# Altium footprint library PcbLib1.PcbLib: 6 footprints
Each footprint in its own frame and in the unit in brackets; x right, y up, seen from the top. Pads: shape width x height; smd on the part's side, far side on the other; paste and mask are expansions set on the pad; w line width, h text height; cw(c..) or ccw(c..) is an arc to the next point about the centre after c.
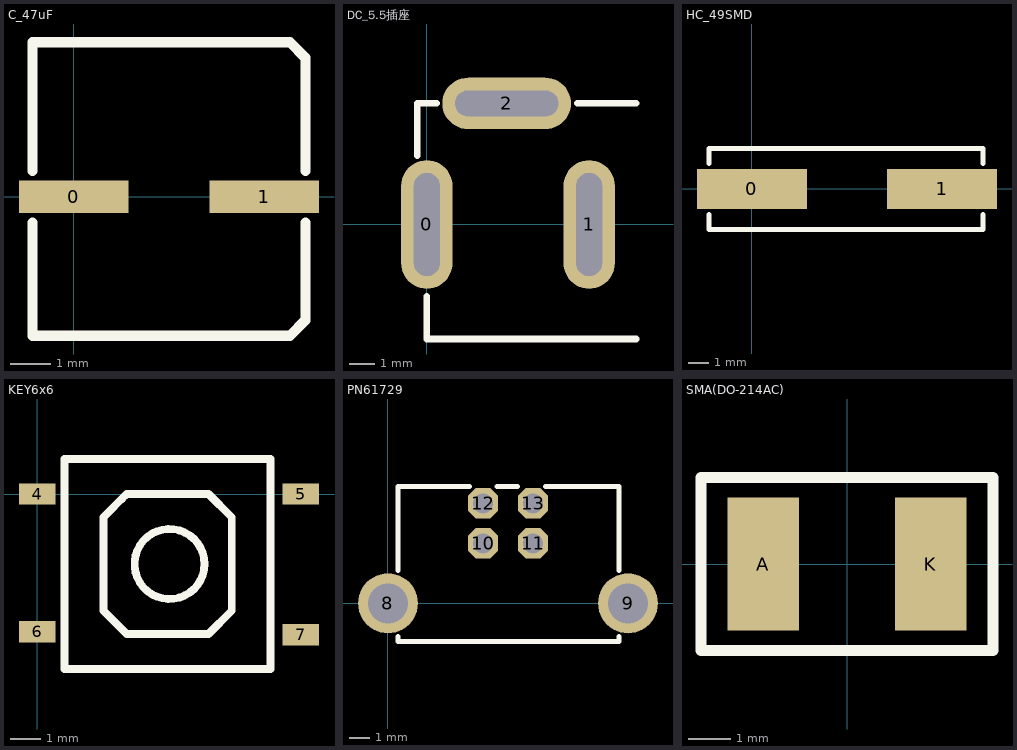
[diagram p0: the footprints below, top view; thin cyan lines are the x and y axes]

## C_47uF [mm]
pads (2):
  rect 2.7x0.8 smd: 0(0,0) 1(4.699,0)
Top Overlay:
  lines w0.254: -1.016,-0.635 -1.016,-3.429 5.334,-3.429 5.715,-3.048 5.715,-0.635 ; -1.016,0.635 -1.016,3.81 5.334,3.81 5.715,3.429 5.715,0.635

## DC_5.5插座 [mm]
pads (3):
  oval 2x5 hole 1 slot 4 at 90 deg: 0(0,0) 1(6.3,0)
  oval 5x2 hole 1 slot 4 at 0 deg: 2(3.1,4.7)
Top Overlay:
  lines w0.254: -0.381,2.667 -0.381,4.699 0.381,4.699 ; 0,-2.794 0,-4.445 8.128,-4.445 ; 5.842,4.699 8.128,4.699

## HC_49SMD [mm]
pads (2):
  rect 5.5x2 smd: 0(0,0) 1(9.5,0)
Top Overlay:
  lines w0.254: -2.159,-1.27 -2.159,-2.032 11.557,-2.032 11.557,-1.778 11.557,-1.27 ; -2.159,1.27 -2.159,2.032 11.557,2.032 11.557,1.27

## KEY6x6 [mm]
pads (4):
  rect 1.2x0.7 smd: 4(0,0) 5(8.6,0) 6(0,-4.5) 7(8.6,-4.6)
Top Overlay:
  circle w0.254: c4.318,-2.286 r1.143
  lines w0.254: 0.889,-5.715 7.62,-5.715 7.62,1.143 0.889,1.143 0.889,0 0.889,-5.715 ; 2.159,-3.81 2.921,-4.572 5.588,-4.572 6.35,-3.81 6.35,-0.762 5.588,0 2.921,0 2.762,-0.159 2.318,-0.603 2.159,-0.762 2.159,-3.81

## PN61729 [mm]
pads (6):
  round 3 hole 2: 8(0,0) 9(12,0)
  oct 1.524x1.524 hole 1: 10(4.75,3) 11(7.25,3) 12(4.75,5) 13(7.25,5)
Top Overlay:
  lines w0.254: 0.508,-1.651 0.508,-1.905 11.557,-1.905 11.557,-1.651 ; 0.508,1.651 0.508,5.842 4.064,5.842 ; 5.461,5.842 6.477,5.842 ; 7.874,5.842 11.557,5.842 11.557,1.651

## SMA(DO-214AC) [mm]
pads (2):
  rect 1.67x3.11 smd: A(-1.965,0) K(1.965,0)
Top Overlay:
  lines w0.254: -3.429,-2.032 -3.429,2.032 3.429,2.032 3.429,-2.032 -3.429,-2.032